# Altium schematic symbol library 4PDT_RELAY_L2.SchLib: 1 symbol
Pins are listed as number, name and electrical type; pins without a type are passive.

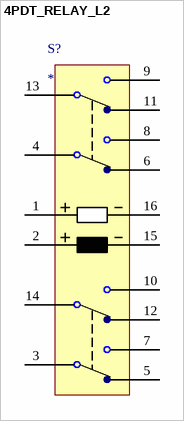
[diagram p0: symbol 4PDT_RELAY_L2]

## 4PDT_RELAY_L2
designator S?
4PDT with Set and Release Coils
pins: 1, 2, 3, 4, 5, 6, 7, 8, 9, 10, 11, 12, 13, 14, 15, 16